# Altium footprint library MH3.2.PcbLib: 1 footprints
Each footprint in its own frame and in the unit in brackets; x right, y up, seen from the top. Pads: shape width x height; smd on the part's side, far side on the other; paste and mask are expansions set on the pad; w line width, h text height; cw(c..) or ccw(c..) is an arc to the next point about the centre after c.
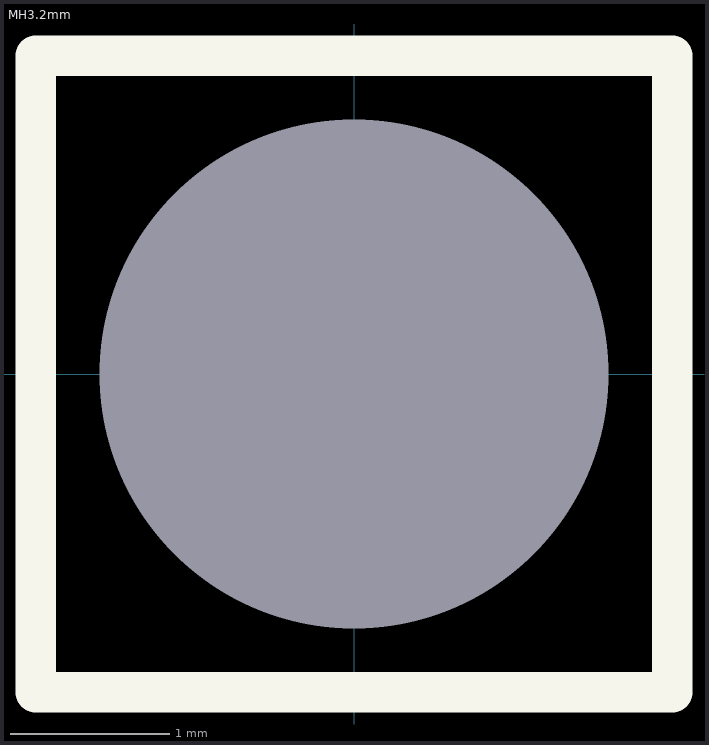
[diagram p0: the footprint, top view; thin cyan lines are the x and y axes]

## MH3.2mm [mm] "Mounting Hole Non-Plated, 3.2mm hole"
pads (1):
  round 1 hole 3.2: ""(0,0)
Top Overlay:
  lines w0.254: -2,-2 -2,2 2,2 2,-2 -2,-2